# Altium footprint library SN74LVC1404DCUR.PcbLib: 3 footprints
Each footprint in its own frame and in the unit in brackets; x right, y up, seen from the top. Pads: shape width x height; smd on the part's side, far side on the other; paste and mask are expansions set on the pad; w line width, h text height; cw(c..) or ccw(c..) is an arc to the next point about the centre after c.
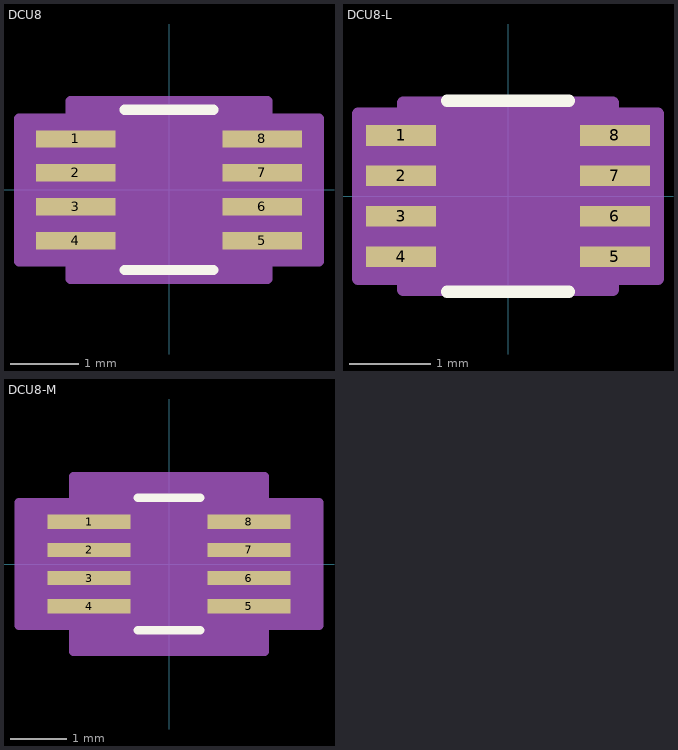
[diagram p0: the footprints below, top view; thin cyan lines are the x and y axes]

## DCU8 [mil]
pads (8):
  rect 46x10 smd: 1(-54,29.53) 2(-54,9.84) 3(-54,-9.84) 4(-54,-29.53) 5(54,-29.53) 6(54,-9.84) 7(54,9.84) 8(54,29.53)
Top Overlay:
  lines w6: -25.68,-46.5 25.68,-46.5 ; -25.68,46.5 25.68,46.5
Mechanical 13:
  lines w0: -12,41.5 ccw(c0,41.5) 12,41.5
Mechanical 15:
  region: -57,-41.37 -87,-41.37 -87,41.37 -57,41.37 -57,51.5 57,51.5 57,41.37 87,41.37 87,-41.37 57,-41.37 57,-51.5 -57,-51.5
  lines w6: -87,-41.37 -57,-41.37 -57,-51.5 57,-51.5 57,-41.37 87,-41.37 87,41.37 57,41.37 57,51.5 -57,51.5 -57,41.37 -87,41.37 -87,-41.37
3D body "DCU8.stp": height 35.01, standoff 0, extent -62.99,-41.49 63.01,41.51

## DCU8-L [mil]
pads (8):
  rect 34x10 smd: 1(-52,29.53) 2(-52,9.84) 3(-52,-9.84) 4(-52,-29.53) 5(52,-29.53) 6(52,-9.84) 7(52,9.84) 8(52,29.53)
Top Overlay:
  lines w6: -29.68,-46.5 29.68,-46.5 ; -29.68,46.5 29.68,46.5
Mechanical 13:
  lines w0: -12,41.5 ccw(c0,41.5) 12,41.5
Mechanical 15:
  region: -51,-40.17 -73,-40.17 -73,40.17 -51,40.17 -51,45.5 51,45.5 51,40.17 73,40.17 73,-40.17 51,-40.17 51,-45.5 -51,-45.5
  lines w6: -73,-40.17 -51,-40.17 -51,-45.5 51,-45.5 51,-40.17 73,-40.17 73,40.17 51,40.17 51,45.5 -51,45.5 -51,40.17 -73,40.17 -73,-40.17
3D body "DCU8.stp": height 35.01, standoff 0, extent -62.99,-41.49 63.01,41.51

## DCU8-M [mil]
pads (8):
  rect 58x10 smd: 1(-56,29.53) 2(-56,9.84) 3(-56,-9.84) 4(-56,-29.53) 5(56,-29.53) 6(56,-9.84) 7(56,9.84) 8(56,29.53)
Top Overlay:
  lines w6: -21.68,-46.5 21.68,-46.5 ; -21.68,46.5 21.68,46.5
Mechanical 13:
  lines w0: -12,41.5 ccw(c0,41.5) 12,41.5
Mechanical 15:
  region: -67,-43.37 -105,-43.37 -105,43.37 -67,43.37 -67,61.5 67,61.5 67,43.37 105,43.37 105,-43.37 67,-43.37 67,-61.5 -67,-61.5
  lines w6: -105,-43.37 -105,43.37 -67,43.37 -67,61.5 67,61.5 67,43.37 105,43.37 105,-43.37 67,-43.37 67,-61.5 -67,-61.5 -67,-43.37 -105,-43.37
3D body "DCU8.stp": height 35.01, standoff 0, extent -62.99,-41.49 63.01,41.51